# Altium integrated library WE-FAMI_rev16a.intlib: 21 symbols
Pins are listed as number, name and electrical type; pins without a type are passive.

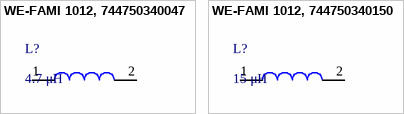
[diagram p0: symbols WE-FAMI 1012, 744750340047 to WE-FAMI 1012, 744750340150]

## WE-FAMI 1012, 744750340047
designator L?, comment 4.7 μH
WE-FAMI THT Leaded Toroidal Storage Choke, Inductance = 4.7 μH; partNo: 744750340047; Manufacturer: Wurth Elektronik; Inductance: 4.7 μH; ComponentLink1Description: Manufacturer; ComponentLink1URL: http://www.we-online.de; Created by: Baojun Chen; Created Date: Nov.2015; ComponentLink2Description: Datasheet; ComponentLink2URL: http://katalog.we-online.de/pbs/datasheet/744750340047.pdf
footprint WE-FAMI_1012_0.80mm (WA-FAMI 1012, pin 0.8mm)
pins: 1, 2

## WE-FAMI 1012, 744750340150
designator L?, comment 15 μH
WE-FAMI THT Leaded Toroidal Storage Choke, Inductance = 15 μH; partNo: 744750340150; Manufacturer: Wurth Elektronik; Inductance: 15 μH; ComponentLink1Description: Manufacturer; ComponentLink1URL: http://www.we-online.de; Created by: Baojun Chen; Created Date: Nov.2015; ComponentLink2Description: Datasheet; ComponentLink2URL: http://katalog.we-online.de/pbs/datasheet/744750340150.pdf
footprint WE-FAMI_1012_0.70mm (WA-FAMI 1012, pin 8mm)
pins: 1, 2


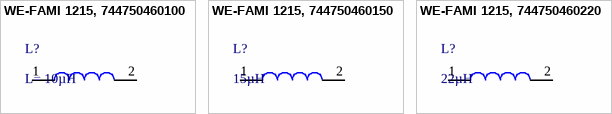
[diagram p1: symbols WE-FAMI 1215, 744750460100 to WE-FAMI 1215, 744750460220]

## WE-FAMI 1215, 744750460100
designator L?, comment L= 10µH
WE-FAMI THT Leaded Toroidal Storage Choke, L= 10µH; partNo: 744750460100; Manufacturer: Wurth Elektronik; Inductance: L= 10µH; ComponentLink1Description: Manufacturer; ComponentLink1URL: http://www.we-online.de; Created by: Baojun Chen; Created Date: Jan.2016; ComponentLink2Description: Datasheet; ComponentLink2URL: http://katalog.we-online.de/pbs/datasheet/744750460100.pdf
footprint WE-FAMI_1215_1.00mm (WA-FAMI 8010 pin 1.0mm)
pins: 1, 2

## WE-FAMI 1215, 744750460150
designator L?, comment 15µH
WE-FAMI THT Leaded Toroidal Storage Choke, L= 15µH; partNo: 744750460150; Manufacturer: Wurth Elektronik; Inductance: 15µH; ComponentLink1Description: Manufacturer; ComponentLink1URL: http://www.we-online.de; Created by: Baojun Chen; Created Date: Jan.2016; ComponentLink2Description: Datasheet; ComponentLink2URL: http://katalog.we-online.de/pbs/datasheet/744750460150.pdf
footprint WE-FAMI_1215_1.00mm (WA-FAMI 8010 pin 1.0mm)
pins: 1, 2

## WE-FAMI 1215, 744750460220
designator L?, comment 22µH
WE-FAMI THT Leaded Toroidal Storage Choke, L= 22µH; partNo: 744750460220; Manufacturer: Wurth Elektronik; Inductance: 22µH; ComponentLink1Description: Manufacturer; ComponentLink1URL: http://www.we-online.de; Created by: Baojun Chen; Created Date: Jan.2016; ComponentLink2Description: Datasheet; ComponentLink2URL: http://katalog.we-online.de/pbs/datasheet/744750460220.pdf
footprint WE-FAMI_1215_0.90mm (WA-FAMI 8010 pin 0.9mm)
pins: 1, 2


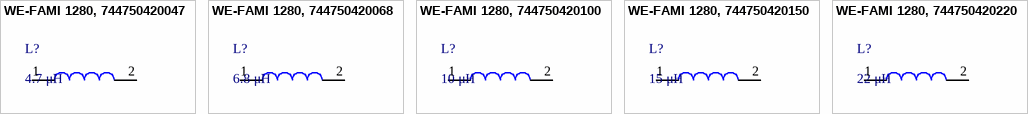
[diagram p2: symbols WE-FAMI 1280, 744750420047 to WE-FAMI 1280, 744750420220]

## WE-FAMI 1280, 744750420047
designator L?, comment 4.7 μH
WE-FAMI THT Leaded Toroidal Storage Choke, Inductance = 4.7 μH; partNo: 744750420047; Manufacturer: Wurth Elektronik; Inductance: 4.7 μH; ComponentLink1Description: Manufacturer; ComponentLink1URL: http://www.we-online.de; Created by: Baojun Chen; Created Date: Nov.2015; ComponentLink2Description: Datasheet; ComponentLink2URL: http://katalog.we-online.de/pbs/datasheet/744750420047.pdf
footprint WE-FAMI_1280_0.80mm (WA-FAMI 1280, pin 0.80mm)
pins: 1, 2

## WE-FAMI 1280, 744750420068
designator L?, comment 6.8 μH
WE-FAMI THT Leaded Toroidal Storage Choke, Inductance = 6.8 μH; partNo: 744750420068; Manufacturer: Wurth Elektronik; Inductance: 6.8 μH; ComponentLink1Description: Manufacturer; ComponentLink1URL: http://www.we-online.de; Created by: Baojun Chen; Created Date: Nov.2015; ComponentLink2Description: Datasheet; ComponentLink2URL: http://katalog.we-online.de/pbs/datasheet/744750420068.pdf
footprint WE-FAMI_1280_0.70mm (WA-FAMI 1280, pin 0.70mm)
pins: 1, 2

## WE-FAMI 1280, 744750420100
designator L?, comment 10 μH
WE-FAMI THT Leaded Toroidal Storage Choke, Inductance = 10 μH; partNo: 744750420100; Manufacturer: Wurth Elektronik; Inductance: 10 μH; ComponentLink1Description: Manufacturer; ComponentLink1URL: http://www.we-online.de; Created by: Baojun Chen; Created Date: Nov.2015; ComponentLink2Description: Datasheet; ComponentLink2URL: http://katalog.we-online.de/pbs/datasheet/744750420100.pdf
footprint WE-FAMI_1280_0.65mm (WA-FAMI 1280, pin 0.65mm)
pins: 1, 2

## WE-FAMI 1280, 744750420150
designator L?, comment 15 μH
WE-FAMI THT Leaded Toroidal Storage Choke, Inductance = 15 μH; partNo: 744750420150; Manufacturer: Wurth Elektronik; Inductance: 15 μH; ComponentLink1Description: Manufacturer; ComponentLink1URL: http://www.we-online.de; Created by: Baojun Chen; Created Date: Nov.2015; ComponentLink2Description: Datasheet; ComponentLink2URL: http://katalog.we-online.de/pbs/datasheet/744750420150.pdf
footprint WE-FAMI_1280_0.60mm (WA-FAMI 1280, pin 0.60mm)
pins: 1, 2

## WE-FAMI 1280, 744750420220
designator L?, comment 22 μH
WE-FAMI THT Leaded Toroidal Storage Choke, Inductance = 22 μH; partNo: 744750420220; Manufacturer: Wurth Elektronik; Inductance: 22 μH; ComponentLink1Description: Manufacturer; ComponentLink1URL: http://www.we-online.de; Created by: Baojun Chen; Created Date: Nov.2015; ComponentLink2Description: Datasheet; ComponentLink2URL: http://katalog.we-online.de/pbs/datasheet/744750420220.pdf
footprint WE-FAMI_1280_0.55mm (WA-FAMI 1280, pin 0.55mm)
pins: 1, 2


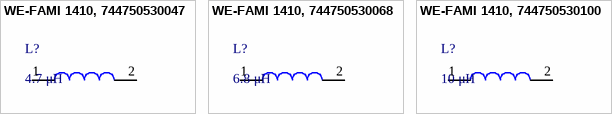
[diagram p3: symbols WE-FAMI 1410, 744750530047 to WE-FAMI 1410, 744750530100]

## WE-FAMI 1410, 744750530047
designator L?, comment 4.7 μH
WE-FAMI THT Leaded Toroidal Storage Choke, Inductance = 4.7 μH; partNo: 744750530047; Manufacturer: Wurth Elektronik; Inductance: 4.7 μH; ComponentLink1Description: Manufacturer; ComponentLink1URL: http://www.we-online.de; Created by: Baojun Chen; Created Date: Nov.2015; ComponentLink2Description: Datasheet; ComponentLink2URL: http://katalog.we-online.de/pbs/datasheet/744750530047.pdf
footprint WE-FAMI_1410_1.10mm (WA-FAMI 1410 pin 1.10mm)
pins: 1, 2

## WE-FAMI 1410, 744750530068
designator L?, comment 6.8 μH
WE-FAMI THT Leaded Toroidal Storage Choke, Inductance = 6.8 μH; partNo: 744750530068; Manufacturer: Wurth Elektronik; Inductance: 6.8 μH; ComponentLink1Description: Manufacturer; ComponentLink1URL: http://www.we-online.de; Created by: Baojun Chen; Created Date: Nov.2015; ComponentLink2Description: Datasheet; ComponentLink2URL: http://katalog.we-online.de/pbs/datasheet/744750530068.pdf
footprint WE-FAMI_1410_1.00mm (WA-FAMI 1410 pin 1.00mm)
pins: 1, 2

## WE-FAMI 1410, 744750530100
designator L?, comment 10 μH
WE-FAMI THT Leaded Toroidal Storage Choke, Inductance = 10 μH; partNo: 744750530100; Manufacturer: Wurth Elektronik; Inductance: 10 μH; ComponentLink1Description: Manufacturer; ComponentLink1URL: http://www.we-online.de; Created by: Baojun Chen; Created Date: Nov.2015; ComponentLink2Description: Datasheet; ComponentLink2URL: http://katalog.we-online.de/pbs/datasheet/744750530100.pdf
footprint WE-FAMI_1410_0.90mm (WA-FAMI 1410 pin 0.90mm)
pins: 1, 2


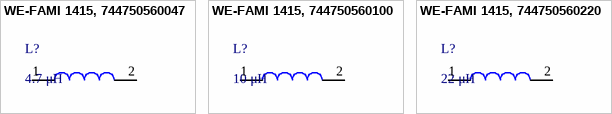
[diagram p4: symbols WE-FAMI 1415, 744750560047 to WE-FAMI 1415, 744750560220]

## WE-FAMI 1415, 744750560047
designator L?, comment 4.7 μH
WE-FAMI THT Leaded Toroidal Storage Choke, Inductance = 4.7 μH; partNo: 744750560047; Manufacturer: Wurth Elektronik; Inductance: 4.7 μH; ComponentLink1Description: Manufacturer; ComponentLink1URL: http://www.we-online.de; Created by: Baojun Chen; Created Date: Nov.2015; ComponentLink2Description: Datasheet; ComponentLink2URL: http://katalog.we-online.de/pbs/datasheet/744750560047.pdf
footprint WE-FAMI_1415_1.20mm (WA-FAMI 1415 pin 1.20mm)
pins: 1, 2

## WE-FAMI 1415, 744750560100
designator L?, comment 10 μH
WE-FAMI THT Leaded Toroidal Storage Choke, Inductance = 10 μH; partNo: 744750560100; Manufacturer: Wurth Elektronik; Inductance: 10 μH; ComponentLink1Description: Manufacturer; ComponentLink1URL: http://www.we-online.de; Created by: Baojun Chen; Created Date: Nov.2015; ComponentLink2Description: Datasheet; ComponentLink2URL: http://katalog.we-online.de/pbs/datasheet/744750560100.pdf
footprint WE-FAMI_1415_1.20mm (WA-FAMI 1415 pin 1.20mm)
pins: 1, 2

## WE-FAMI 1415, 744750560220
designator L?, comment 22 μH
WE-FAMI THT Leaded Toroidal Storage Choke, Inductance = 22 μH; partNo: 744750560220; Manufacturer: Wurth Elektronik; Inductance: 22 μH; ComponentLink1Description: Manufacturer; ComponentLink1URL: http://www.we-online.de; Created by: Baojun Chen; Created Date: Nov.2015; ComponentLink2Description: Datasheet; ComponentLink2URL: http://katalog.we-online.de/pbs/datasheet/744750560220.pdf
footprint WE-FAMI_1415_0.90mm (WA-FAMI 1415 pin 0.90mm)
pins: 1, 2


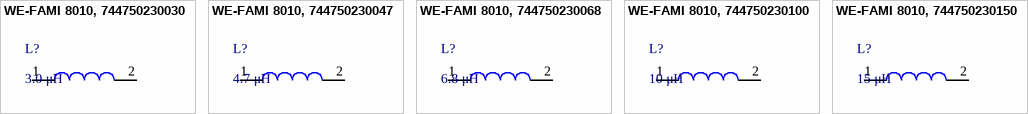
[diagram p5: symbols WE-FAMI 8010, 744750230030 to WE-FAMI 8010, 744750230150]

## WE-FAMI 8010, 744750230030
designator L?, comment 3.0 μH
WE-FAMI THT Leaded Toroidal Storage Choke, Inductance = 3.0 μH; partNo: 744750230030; Manufacturer: Wurth Elektronik; Inductance: 3.0 μH; ComponentLink1Description: Manufacturer; ComponentLink1URL: http://www.we-online.de; Created by: Baojun Chen; Created Date: Nov.2015; ComponentLink2Description: Datasheet; ComponentLink2URL: http://katalog.we-online.de/pbs/datasheet/744750230030.pdf
footprint WE-FAMI_8010_0.65MM
pins: 1, 2

## WE-FAMI 8010, 744750230047
designator L?, comment 4.7 μH
WE-FAMI THT Leaded Toroidal Storage Choke, Inductance = 4.7 μH; partNo: 744750230047; Manufacturer: Wurth Elektronik; Inductance: 4.7 μH; ComponentLink1Description: Manufacturer; ComponentLink1URL: http://www.we-online.de; Created by: Baojun Chen; Created Date: Nov.2015; ComponentLink2Description: Datasheet; ComponentLink2URL: http://katalog.we-online.de/pbs/datasheet/744750230047.pdf
footprint WE-FAMI_8010_0.65MM
pins: 1, 2

## WE-FAMI 8010, 744750230068
designator L?, comment 6.8 μH
WE-FAMI THT Leaded Toroidal Storage Choke, Inductance = 6.8 μH; partNo: 744750230068; Manufacturer: Wurth Elektronik; Inductance: 6.8 μH; ComponentLink1Description: Manufacturer; ComponentLink1URL: http://www.we-online.de; Created by: Baojun Chen; Created Date: Nov.2015; ComponentLink2Description: Datasheet; ComponentLink2URL: http://katalog.we-online.de/pbs/datasheet/744750230068.pdf
footprint WE-FAMI_8010_0.65MM (WA-FAMI 8010 pin 0.65mm)
pins: 1, 2

## WE-FAMI 8010, 744750230100
designator L?, comment 10 μH
WE-FAMI THT Leaded Toroidal Storage Choke, Inductance = 10 μH; partNo: 744750230100; Manufacturer: Wurth Elektronik; Inductance: 10 μH; ComponentLink1Description: Manufacturer; ComponentLink1URL: http://www.we-online.de; Created by: Baojun Chen; Created Date: Nov.2015; ComponentLink2Description: Datasheet; ComponentLink2URL: http://katalog.we-online.de/pbs/datasheet/744750230100.pdf
footprint WE-FAMI_8010_0.55MM
pins: 1, 2

## WE-FAMI 8010, 744750230150
designator L?, comment 15 μH
WE-FAMI THT Leaded Toroidal Storage Choke, Inductance = 15 μH; partNo: 744750230150; Manufacturer: Wurth Elektronik; Inductance: 15 μH; ComponentLink1Description: Manufacturer; ComponentLink1URL: http://www.we-online.de; Created by: Baojun Chen; Created Date: Nov.2015; ComponentLink2Description: Datasheet; ComponentLink2URL: http://katalog.we-online.de/pbs/datasheet/744750230150.pdf
footprint WE-FAMI_8010_0.50MM
pins: 1, 2